# EAGLE library part 621310284521 (library Headers)
2.00mm SMT Angled Dual Pin Header WR-PHD Manufacturer's datasheet <https://katalog.we-online.com/em/datasheet/621310284521.pdf>
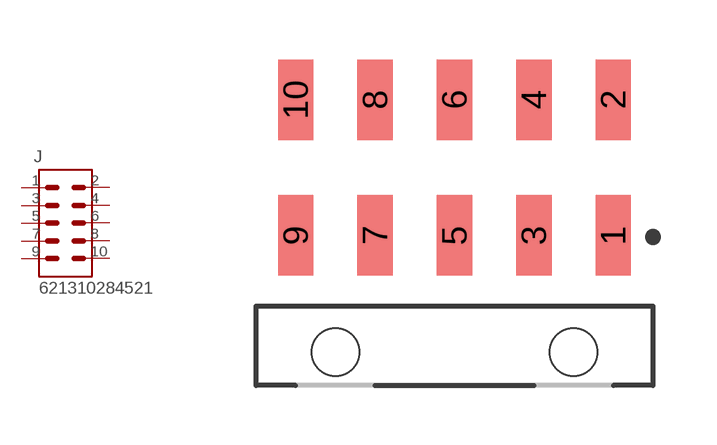
[diagram p18: symbol with the pads of 621310284521; footprint 621310284521]

Designator prefix J

## 621310284521 (CREATED_BY: PCBLayout.com; MANUFACTURER: Wurth Elektronik; MPN: 621310284521)  [621310284521]
1  1  pas
2  2  pas
3  3  pas
4  4  pas
5  5  pas
6  6  pas
7  7  pas
8  8  pas
9  9  pas
10  10  pas

## Footprint 621310284521 (pad centres in mm)
smd 0.89 x 2.03: 1 4,-1.71; 2 4,1.71; 3 2,-1.71; 4 2,1.71; 5 0,-1.71; 6 0,1.71; 7 -2,-1.71; 8 -2,1.71; 9 -4,-1.71; 10 -4,1.71
hole 1.2 at -3,-4.66
hole 1.2 at 3,-4.66